# Altium footprint library Components - 03.08.24 - 23.PcbLib: 1 footprints
Each footprint in its own frame and in the unit in brackets; x right, y up, seen from the top. Pads: shape width x height; smd on the part's side, far side on the other; paste and mask are expansions set on the pad; w line width, h text height; cw(c..) or ccw(c..) is an arc to the next point about the centre after c.
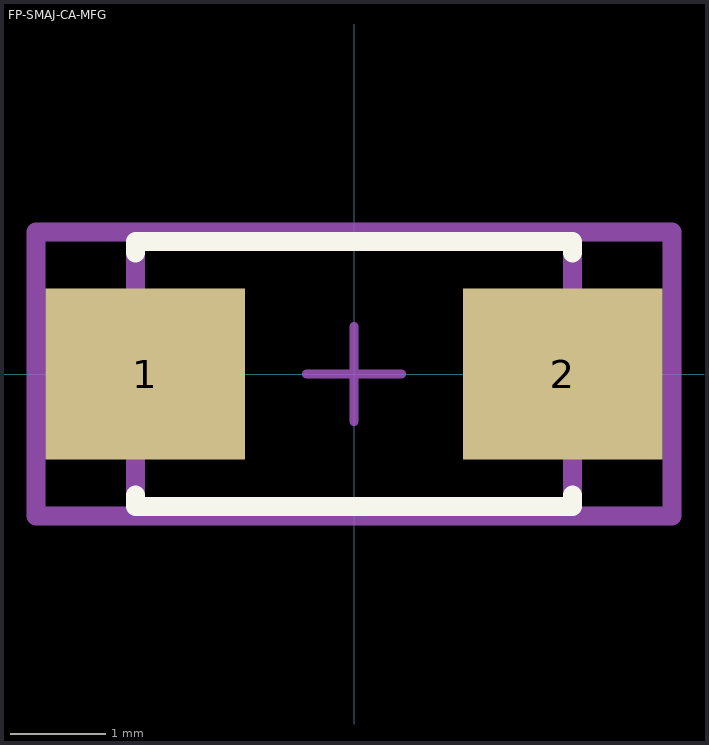
[diagram p0: the footprint, top view; thin cyan lines are the x and y axes]

## FP-SMAJ-CA-MFG [mm]
pads (2):
  rect 2.1x1.8 smd paste+0 mask+0: 1(-2.2,0) 2(2.2,0)
Top Overlay:
  lines w0.2: -2.3,-1.275 -2.3,-1.395 2.3,-1.395 2.3,-1.275 ; -2.3,1.275 -2.3,1.395 2.3,1.395 2.3,1.275
Top Assembly:
  lines w0.2: -3.35,-1.495 -3.35,1.495 3.35,1.495 3.35,-1.495 -3.35,-1.495
  text ".Designator" at 0,0.188 h1
Top 3D Body:
  lines w0.2: -2.3,-1.395 -2.3,1.395 2.3,1.395 2.3,-1.395 -2.3,-1.395
Top Courtyard:
  lines w0.2: -3.35,-1.495 -3.35,1.495 3.35,1.495 3.35,-1.495 -3.35,-1.495
Top Component Center:
  lines w0.1: -0.5,0 0.5,0 ; 0,-0.5 0,0.5
3D body "Diode_Littelfuse_Inc_SMAJ36CA_eec.STEP": height 0.25, standoff 0, extent -3.35,-1.495 3.35,1.495